# Altium footprint library RUS-15Pin.PcbLib: 1 footprints
Each footprint in its own frame and in the unit in brackets; x right, y up, seen from the top. Pads: shape width x height; smd on the part's side, far side on the other; paste and mask are expansions set on the pad; w line width, h text height; cw(c..) or ccw(c..) is an arc to the next point about the centre after c.
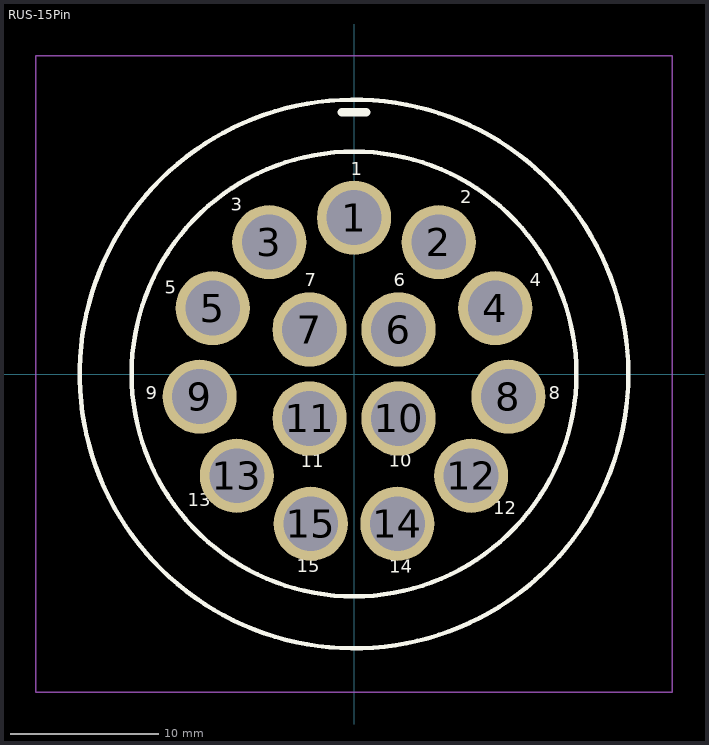
[diagram p0: the footprint, top view; thin cyan lines are the x and y axes]

## RUS-15Pin [mm]
pads (15):
  round 5 hole 3.7: 1(0,10.541) 2(5.715,8.89) 3(-5.715,8.89) 4(9.525,4.445) 5(-9.525,4.445) 6(3,3) 7(-3,3) 8(10.414,-1.524) 9(-10.414,-1.524) 10(3,-3) 11(-3,-3) 12(7.9,-6.858) 13(-7.9,-6.858) 14(2.921,-10.1) 15(-2.921,-10.1)
Top Overlay:
  circle w0.3: c0,0 r15
  circle w0.3: c0,0 r18.5
  lines w0.6: -0.8,17.653 0.8,17.653
  text "7" at -3.315,5.622 h1.5
  text "11" at -3.584,-6.579 h1.5
  text "10" at 2.34,-6.57 h1.5
  text "1" at -0.211,13.106 h1.5
  text "2" at 7.171,11.201 h1.5
  text "3" at -8.32,10.702 h1.5
  text "5" at -12.769,5.123 h1.5
  text "4" at 11.847,5.614 h1.5
  text "6" at 2.679,5.622 h1.5
  text "9" at -14.036,-1.998 h1.5
  text "8" at 13.146,-1.998 h1.5
  text "13" at -11.205,-9.237 h1.5
  text "15" at -3.848,-13.682 h1.5
  text "14" at 2.37,-13.691 h1.5
  text "12" at 9.374,-9.754 h1.5
Top Courtyard:
  lines w0.1: -21.455,-21.455 -20.955,-21.455 21.453,-21.455 21.453,21.455 -21.455,21.455 -21.455,-21.455
3D body "SPCEO0292.STEP": height 31.7, standoff -6, extent -20.95,-20.95 20.95,20.95